# EAGLE library part PCN10EA-20S-2.54DSA(72) (library con-hirose)
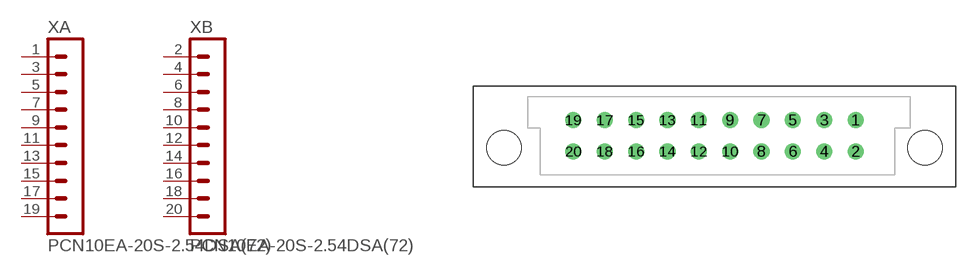
[diagram p2: symbol with the pads of PCN10EA-20S-2.54DSA(72); footprint PCN10EA-20S-2.54DSA(72)]

Designator prefix X; gates A=10 B=10

## PCN10EA-20S-2.54DSA(72)  [PCN10EA-20S-2.54DSA(72)]
1  A:1  pas
2  B:1  pas
3  A:2  pas
4  B:2  pas
5  A:3  pas
6  B:3  pas
7  A:4  pas
8  B:4  pas
9  A:5  pas
10  B:5  pas
11  A:6  pas
12  B:6  pas
13  A:7  pas
14  B:7  pas
15  A:8  pas
16  B:8  pas
17  A:9  pas
18  B:9  pas
19  A:10  pas
20  B:10  pas

## Footprint PCN10EA-20S-2.54DSA(72) (pad centres in mm)
drill 0.8: 1 11.43,1.27; 2 11.43,-1.27; 3 8.89,1.27; 4 8.89,-1.27; 5 6.35,1.27; 6 6.35,-1.27; 7 3.81,1.27; 8 3.81,-1.27; 9 1.27,1.27; 10 1.27,-1.27; 11 -1.27,1.27; 12 -1.27,-1.27; 13 -3.81,1.27; 14 -3.81,-1.27; 15 -6.35,1.27; 16 -6.35,-1.27; 17 -8.89,1.27; 18 -8.89,-1.27; 19 -11.43,1.27; 20 -11.43,-1.27
hole 2.8 at -17.06,-0.97
hole 2.8 at 17.06,-0.97